# EAGLE library part HOLDER-SDCARD-9P (library Connector)
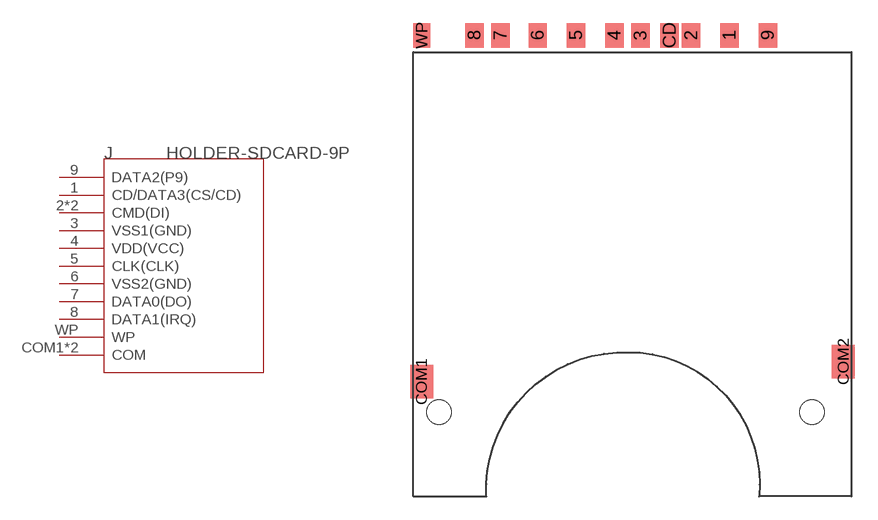
[diagram p36: symbol with the pads of 11P-29X28.55X2.8H; footprint 11P-29X28.55X2.8H]

Designator prefix J

## HOLDER-SDCARD-9P'ST-SD-01B'  [11P-29X28.55X2.8H]
1  CD/DATA3(CS/CD)
2  CMD(DI)
3  VSS1(GND)
4  VDD(VCC)
5  CLK(CLK)
6  VSS2(GND)
7  DATA0(DO)
8  DATA1(IRQ)
9  DATA2(P9)
CD  CMD(DI)
COM1  COM
COM2  COM
WP  WP

## Footprint 11P-29X28.55X2.8H (pad centres in mm)
smd 1.2 x 1.6: 1 6.875,15.7; 2 4.375,15.7; 3 1.075,15.7; 4 -0.625,15.7; 5 -3.125,15.7; 6 -5.625,15.7; 7 -8.05,15.7; 8 -9.75,15.7; 9 9.375,15.7; CD 2.975,15.7
smd 1.5 x 2.2: COM1 -13.2,-6.9; COM2 14.3,-5.6
smd 1.1 x 1.6: WP -13.18,15.7
hole 1.6 at 12.25,-8.9
hole 1.6 at -12.05,-8.9